# Altium footprint library 004-H-01 SD data logger.PcbLib: 27 footprints (part 2 of 2)
Each footprint in its own frame and in the unit in brackets; x right, y up, seen from the top. Pads: shape width x height; smd on the part's side, far side on the other; paste and mask are expansions set on the pad; w line width, h text height; cw(c..) or ccw(c..) is an arc to the next point about the centre after c.
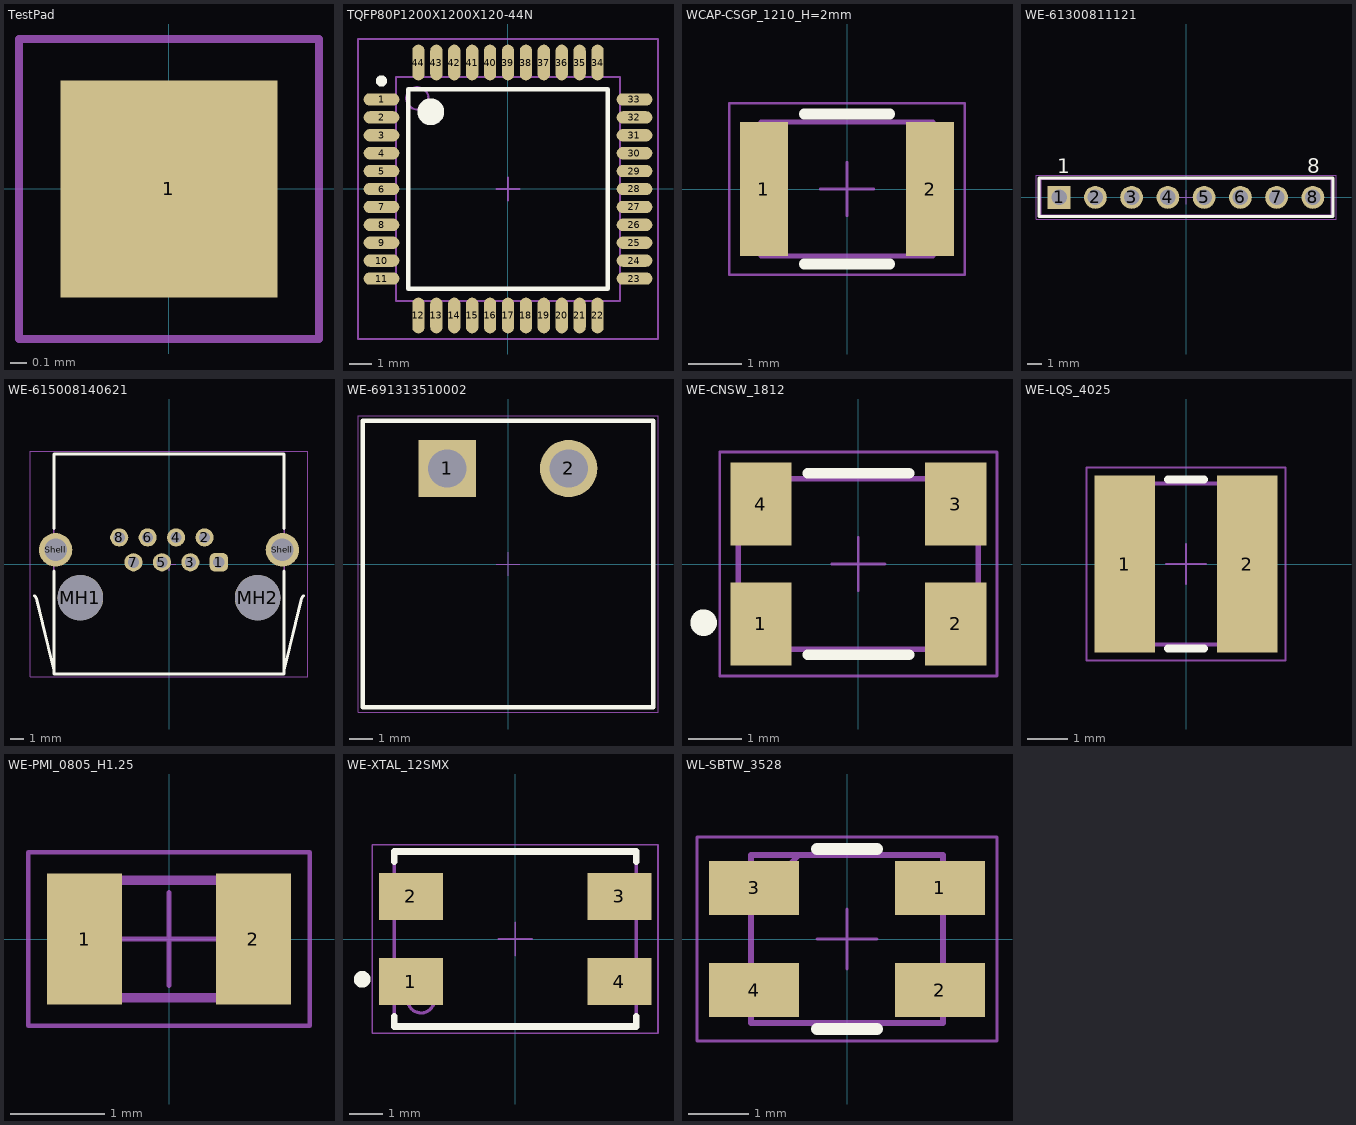
[diagram p1: the footprints below, top view; thin cyan lines are the x and y axes]

## TestPad [mm] "Test pad 2mm"
pads (1):
  rect 1.3x1.3 smd: 1(0,0)
Mechanical 15:
  lines w0.05: -0.9,-0.9 -0.9,0.9 0.9,0.9 0.9,-0.9 -0.9,-0.9

## TQFP80P1200X1200X120-44N [mm] "TQFP, 44-Leads, Body 12.0x12.0mm (max), Pitch 0.80mm, IPC Medium Density"
height 1.2
pads (44):
  oval 1.6x0.55 smd: 1(-5.65,4) 2(-5.65,3.2) 3(-5.65,2.4) 4(-5.65,1.6) 5(-5.65,0.8) 6(-5.65,0) 7(-5.65,-0.8) 8(-5.65,-1.6) 9(-5.65,-2.4) 10(-5.65,-3.2) 11(-5.65,-4) 23(5.65,-4) 24(5.65,-3.2) 25(5.65,-2.4) 26(5.65,-1.6) 27(5.65,-0.8) 28(5.65,0) 29(5.65,0.8) 30(5.65,1.6) 31(5.65,2.4) 32(5.65,3.2) 33(5.65,4)
  oval 0.55x1.6 smd: 12(-4,-5.65) 13(-3.2,-5.65) 14(-2.4,-5.65) 15(-1.6,-5.65) 16(-0.8,-5.65) 17(0,-5.65) 18(0.8,-5.65) 19(1.6,-5.65) 20(2.4,-5.65) 21(3.2,-5.65) 22(4,-5.65) 34(4,5.65) 35(3.2,5.65) 36(2.4,5.65) 37(1.6,5.65) 38(0.8,5.65) 39(0,5.65) 40(-0.8,5.65) 41(-1.6,5.65) 42(-2.4,5.65) 43(-3.2,5.65) 44(-4,5.65)
Top Overlay:
  circle w0.6: c-3.45,3.45 r0.3
  circle w0.25: c-5.65,4.825 r0.125
  lines w0.2: -4.45,-4.45 4.45,-4.45 4.45,4.45 -4.45,4.45 -4.45,-4.45
Mechanical 13:
  circle w0.1: c-4.05,4.05 r0.5
  lines w0.1: -5,-5 5,-5 5,5 -5,5 -5,-5
Mechanical 15:
  lines w0.1: -0.5,0 0.5,0 ; 0,-0.5 0,0.5 ; -6.7,-6.7 6.7,-6.7 6.7,6.7 -6.7,6.7 -6.7,-6.7
Fab Notes:
  text ".Designator" at -1.6,-0.5 h0.3
3D body: height 1.2, standoff 0.05, extent -5,-5 5,5
3D body "User Library-IPC QFP-full.step": height 1.35, standoff 0, extent -6.01,-6.01 6.011,6.011

## WCAP-CSGP_1210_H=2mm [mm] "Ceramic Capacitors, body 3.2x2.5mm"
height 2.2
pads (2):
  rect 0.9x2.5 smd: 1(-1.55,0) 2(1.55,0)
Top Overlay:
  lines w0.2: -0.8,-1.4 0.8,-1.4 ; -0.8,1.4 0.8,1.4
Mechanical 13:
  lines w0.1: -1.6,-1.25 1.6,-1.25 1.6,1.25 -1.6,1.25 -1.6,-1.25
Mechanical 15:
  lines w0.05: -0.5,0 0.5,0 ; 0,-0.5 0,0.5 ; -2.2,-1.6 2.2,-1.6 2.2,1.6 -2.2,1.6 -2.2,-1.6
3D body "3.2x2.5x2x0.75.stp": height 2, standoff 0, extent -1.6,-1.25 1.6,1.25

## WE-61300811121 [mm] "Pin Header, pitch 2.54 mm, THT, Vertical, single row, 8p"
height 8.54
pads (8):
  rect 1.6x1.6 hole 1.1: 1(-8.89,0)
  round 1.6 hole 1.1: 2(-6.35,0) 3(-3.81,0) 4(-1.27,0) 5(1.27,0) 6(3.81,0) 7(6.35,0) 8(8.89,0)
Top Overlay:
  lines w0.2: -10.31,-1.345 -10.31,1.345 10.31,1.345 10.31,-1.345 -10.31,-1.345
  text "8" at 8.51,1.7 h1.02
  text "1" at -9.01,1.7 h1.02
Mechanical 13:
  lines w0.1: -10.16,-1.27 10.16,-1.27 10.16,1.27 -10.16,1.27 -10.16,-1.27
Mechanical 15:
  lines w0.05: -0.5,0 0.5,0 ; 0,-0.5 0,0.5 ; -10.51,-1.545 10.51,-1.545 10.51,1.545 -10.51,1.545 -10.51,-1.545
Fab Notes:
  text ".Designator" at -1.6,-0.5 h0.3
3D body "61300811121.stp": height 8.57, standoff -2.97, extent -10.16,-1.27 10.16,1.27

## WE-615008140621 [mm] "Modular Jack Horizontal Shielded with EMI Panel Finger 8P8C Tab Up"
height 13.25
pads (12):
  rrect50% 1.3x1.3 hole 0.8: 1(3.57,0.125)
  round 1.3 hole 0.8: 2(2.55,1.905) 3(1.53,0.125) 4(0.51,1.905) 5(-0.51,0.125) 6(-1.53,1.905) 7(-2.55,0.125) 8(-3.57,1.905)
  round 3.25 hole 3.25 unplated: MH1(-6.35,-2.415) MH2(6.35,-2.415)
  round 2.4 hole 1.6: Shell(-8.125,1.015) Shell(8.125,1.015)
Top Overlay:
  lines w0.2: -9.64,-2.27 cw(c-10.1,-2.729) -9.462,-2.609 -8.25,-7.58 ; -8.25,-0.5 -8.25,-7.875 8.25,-7.875 8.25,-0.5 ; -8.25,2.55 -8.25,7.875 8.25,7.875 8.25,2.55 ; 8.25,-7.58 9.462,-2.609 cw(c10.1,-2.729) 9.64,-2.27
Mechanical 13:
  lines w0.1: -9.64,-2.27 cw(c-10.1,-2.729) -9.462,-2.609 -8.25,-7.58 ; 8.25,-7.58 9.462,-2.609 cw(c10.1,-2.729) 9.64,-2.27 ; -8.25,-7.875 -8.25,7.875 8.25,7.875 8.25,-7.875 -8.25,-7.875
Mechanical 15:
  lines w0.05: -0.5,0 0.5,0 ; 0,-0.5 0,0.5 ; -9.95,-8.075 9.95,-8.075 9.95,8.075 -9.95,8.075 -9.95,-8.075
Fab Notes:
  lines w0.1: -9.64,-2.27 cw(c-10.1,-2.729) -9.462,-2.609 -8.25,-7.58 ; 8.25,-7.58 9.462,-2.609 cw(c10.1,-2.729) 9.64,-2.27 ; -8.25,-7.875 -8.25,7.875 8.25,7.875 8.25,-7.875 -8.25,-7.875
  text ".Designator" at -1.6,-0.5 h0.3
3D body "615008140621 (rev1).stp": height 14.82, standoff -3.42, extent -9.75,-7.875 9.75,7.975

## WE-691313510002 [mm] "5,08mm - PCB Headers - Horizontal - Closed ends - 02p"
height 8.5
pads (2):
  rect 2.4x2.4 hole 1.6: 1(-2.54,4)
  round 2.4 hole 1.6: 2(2.54,4)
Top Overlay:
  lines w0.2: -6.08,-6 -6.08,6 6.08,6 6.08,-6 -6.08,-6
Mechanical 13:
  lines w0.1: -6.08,-6 6.08,-6 6.08,6 -6.08,6 -6.08,-6
Mechanical 15:
  lines w0.05: -0.5,0 0.5,0 ; 0,-0.5 0,0.5 ; -6.28,-6.2 -6.28,6.2 6.28,6.2 6.28,-6.2 -6.28,-6.2
Fab Notes:
  text ".Designator" at -1.6,-0.5 h0.3
3D body "691313510002.stp": height 8.55, standoff -3.45, extent -6.08,-6 6.08,6

## WE-CNSW_1812 [mm] "SMT Common Mode Line Filter, 4-leads, body 4.5x3.2mm"
height 2.8
pads (4):
  rect 1.15x1.55 smd: 1(-1.825,-1.125) 2(1.825,-1.125) 3(1.825,1.125) 4(-1.825,1.125)
Top Overlay:
  circle w0.25: c-2.9,-1.1 r0.125
  lines w0.2: -0.95,-1.7 0.95,-1.7 ; -0.95,1.7 0.95,1.7
Mechanical 13:
  lines w0.1: -2.25,-1.6 2.25,-1.6 2.25,1.6 -2.25,1.6 -2.25,-1.6
Mechanical 15:
  lines w0.05: -0.5,0 0.5,0 ; 0,-0.5 0,0.5 ; -2.6,-2.1 -2.6,2.1 2.6,2.1 2.6,-2.1 -2.6,-2.1
Fab Notes:
  text ".Designator" at -1.6,-0.5 h0.3
3D body "744235xxx.stp": height 2.84, standoff -0.01, extent -2.25,-1.6 2.25,1.6

## WE-LQS_4025 [mm] "SMD Power Inductor, 2-Leads, body 4x4mm"
height 2.5
pads (2):
  rect 1.5x4.4 smd: 1(-1.525,0) 2(1.525,0)
Top Overlay:
  lines w0.2: -0.45,-2.1 0.45,-2.1 ; -0.45,2.1 0.45,2.1
Mechanical 13:
  lines w0.1: -2,-2 2,-2 2,2 -2,2 -2,-2
Mechanical 15:
  lines w0.05: -0.5,0 0.5,0 ; 0,-0.5 0,0.5 ; -2.475,-2.4 -2.475,2.4 2.475,2.4 2.475,-2.4 -2.475,-2.4
Fab Notes:
  text ".Designator" at -1.6,-0.5 h0.3
3D body "IndLQS_4025_74404043xxxA.stp": height 2.15, standoff 0, extent -2,-2 2,2

## WE-PMI_0805_H1.25 [mm] "Power Multilayer Inductor, body 2x1.25mm"
height 1.25
pads (2):
  rect 0.8x1.4 smd: 1(-0.9,0) 2(0.9,0)
Mechanical 11:
  lines w0.1: -1,-0.625 -1,0.625 1,0.625 1,-0.625 -1,-0.625
  text ".Designator" at -0.81,-0.35 h0.7
Mechanical 13:
  lines w0.1: -1,-0.625 1,-0.625 1,0.625 -1,0.625 -1,-0.625
Mechanical 15:
  lines w0.05: -0.5,0 0.5,0 ; 0,-0.5 0,0.5 ; -1.5,-0.925 -1.5,0.925 1.5,0.925 1.5,-0.925 -1.5,-0.925
3D body "74479777xxx_0805.stp": height 1.25, standoff 0, extent -1,-0.625 1,0.625

## WE-XTAL_12SMX [mm] "Quartz Crystal, size 12SMX, body 7.5x5.2mm"
height 1.2
pads (4):
  rect 1.9x1.4 smd: 1(-3.1,-1.27) 2(-3.1,1.27) 3(3.1,1.27) 4(3.1,-1.27)
Top Overlay:
  circle w0.25: c-4.55,-1.2 r0.125
  lines w0.2: -3.6,-2.3 -3.6,-2.6 3.6,-2.6 3.6,-2.3 ; -3.6,2.3 -3.6,2.6 3.6,2.6 3.6,2.3
Mechanical 13:
  lines w0.1: -3.6,-2.6 3.6,-2.6 3.6,2.6 -3.6,2.6 -3.6,-2.6
Mechanical 15:
  lines w0.05: -0.5,0 0.5,0 ; 0,-0.5 0,0.5 ; -4.25,-2.8 -4.25,2.8 4.25,2.8 4.25,-2.8 -4.25,-2.8
Fab Notes:
  circle w0.1: c-2.8,-1.8 r0.4
  lines w0.1: -3.6,-2.6 3.6,-2.6 3.6,2.6 -3.6,2.6 -3.6,-2.6
  text ".Designator" at -1.6,-0.5 h0.3
3D body "FrqXTAL_12SMX-B.stp": height 1.1, standoff 0, extent -3.75,-2.6 3.75,2.6

## WL-SBTW_3528 [mm] "SMD Bi-color TOP LED, body 3.2x2.8mm"
height 1.9
pads (4):
  rect 1.5x0.9 smd: 1(1.55,0.85) 2(1.55,-0.85) 3(-1.55,0.85) 4(-1.55,-0.85)
Top Overlay:
  lines w0.2: -0.5,-1.5 0.5,-1.5 ; -0.5,1.5 0.5,1.5
Mechanical 13:
  lines w0.1: -1.6,0.6 -0.8,1.4 ; -1.6,-1.4 1.6,-1.4 1.6,1.4 -1.6,1.4 -1.6,-1.4
Mechanical 15:
  lines w0.05: -0.5,0 0.5,0 ; 0,-0.5 0,0.5 ; -2.5,-1.7 2.5,-1.7 2.5,1.7 -2.5,1.7 -2.5,-1.7
Fab Notes:
  text ".Designator" at -1.6,-0.5 h0.3
3D body "150141xx73100.stp": height 1.9, standoff 0, extent -1.75,-1.4 1.75,1.4